# Altium schematic symbol library WE-HCFT.SchLib: 59 symbols (part 1 of 2)
Pins are listed as number, name and electrical type; pins without a type are passive.

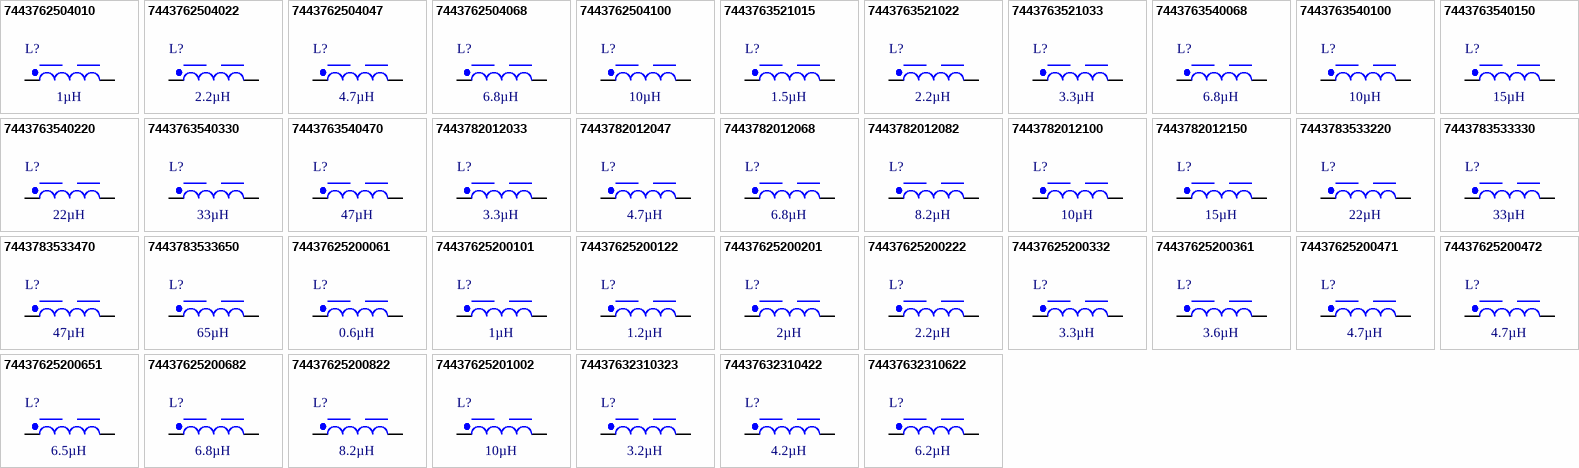
[diagram p0: symbols 7443762504010 to 74437632310622]

## 7443762504010
designator L?, comment 1µH
WE-HCFT THT High Current Inductor, size 2504, 1µH, 39A; Manufacturer Part Number: 7443762504010; Manufacturer: Wurth Elektronik; Case/Size Code: 2504; DC Resistance: 0.86mΩ; DC Resistance Max: 0.95mΩ; Inductance Tolerance: 20%; Saturation Current: 33A; Self Resonant Frequency: 38MHz; Category: Power Inductors; Match Code: WE-HCFT; ComponentLink1Description: Website Link; ComponentLink1URL: https://www.we-online.com/redexpert/article/7443762504010?ad; ComponentLink2Description: Datasheet Link; ComponentLink2URL: https://www.we-online.com/redexpert/spec/7443762504010?ad; Mount: Through Hole; Min Operating Temperature: -40°C; Max Operating Temperature: 125°C; Packaging: Tray; Length: 22mm; Width: 25.7mm; Height: 4.1mm; Inductance: 1µH; Rated Current: 39A
footprint WE-HCFT_2504_7443762504010
simulation model 2504_7443762504010_1u
pins: 1, 2

## 7443762504022
designator L?, comment 2.2µH
WE-HCFT THT High Current Inductor, size 2504, 2.2µH, 30A; Manufacturer Part Number: 7443762504022; Manufacturer: Wurth Elektronik; Case/Size Code: 2504; DC Resistance: 1.78mΩ; DC Resistance Max: 1.96mΩ; Inductance Tolerance: 20%; Saturation Current: 23.8A; Self Resonant Frequency: 23MHz; Category: Power Inductors; Match Code: WE-HCFT; ComponentLink1Description: Website Link; ComponentLink1URL: https://www.we-online.com/redexpert/article/7443762504022?ad; ComponentLink2Description: Datasheet Link; ComponentLink2URL: https://www.we-online.com/redexpert/spec/7443762504022?ad; Mount: Through Hole; Min Operating Temperature: -40°C; Max Operating Temperature: 125°C; Packaging: Tray; Length: 22mm; Width: 25.7mm; Height: 4.1mm; Inductance: 2.2µH; Rated Current: 30A
footprint WE-HCFT_2504_7443762504022
simulation model 2504_7443762504022_2.2u
pins: 1, 2

## 7443762504047
designator L?, comment 4.7µH
WE-HCFT THT High Current Inductor, size 2504, 4.7µH, 24A; Manufacturer Part Number: 7443762504047; Manufacturer: Wurth Elektronik; Case/Size Code: 2504; DC Resistance: 2.77mΩ; DC Resistance Max: 3.05mΩ; Inductance Tolerance: 20%; Saturation Current: 14A; Self Resonant Frequency: 14.5MHz; Category: Power Inductors; Match Code: WE-HCFT; ComponentLink1Description: Website Link; ComponentLink1URL: https://www.we-online.com/redexpert/article/7443762504047?ad; ComponentLink2Description: Datasheet Link; ComponentLink2URL: https://www.we-online.com/redexpert/spec/7443762504047?ad; Mount: Through Hole; Min Operating Temperature: -40°C; Max Operating Temperature: 125°C; Packaging: Tray; Length: 22mm; Width: 25.7mm; Height: 4.1mm; Inductance: 4.7µH; Rated Current: 24A
footprint WE-HCFT_2504_7443762504047
simulation model 2504_7443762504047_4.7u
pins: 1, 2

## 7443762504068
designator L?, comment 6.8µH
WE-HCFT THT High Current Inductor, size 2504, 6.8µH, 20A; Manufacturer Part Number: 7443762504068; Manufacturer: Wurth Elektronik; Case/Size Code: 2504; DC Resistance: 4.21mΩ; DC Resistance Max: 4.63mΩ; Inductance Tolerance: 20%; Saturation Current: 12.6A; Self Resonant Frequency: 11MHz; Category: Power Inductors; Match Code: WE-HCFT; ComponentLink1Description: Website Link; ComponentLink1URL: https://www.we-online.com/redexpert/article/7443762504068?ad; ComponentLink2Description: Datasheet Link; ComponentLink2URL: https://www.we-online.com/redexpert/spec/7443762504068?ad; Mount: Through Hole; Min Operating Temperature: -40°C; Max Operating Temperature: 125°C; Packaging: Tray; Length: 22mm; Width: 25.7mm; Height: 4.1mm; Inductance: 6.8µH; Rated Current: 20A
footprint WE-HCFT_2504_7443762504068
simulation model 2504_7443762504068_6.8u
pins: 1, 2

## 7443762504100
designator L?, comment 10µH
WE-HCFT THT High Current Inductor, size 2504, 10µH, 20A; Manufacturer Part Number: 7443762504100; Manufacturer: Wurth Elektronik; Case/Size Code: 2504; DC Resistance: 4.21mΩ; DC Resistance Max: 4.63mΩ; Inductance Tolerance: 20%; Saturation Current: 8.8A; Self Resonant Frequency: 8.4MHz; Category: Power Inductors; Match Code: WE-HCFT; ComponentLink1Description: Website Link; ComponentLink1URL: https://www.we-online.com/redexpert/article/7443762504100?ad; ComponentLink2Description: Datasheet Link; ComponentLink2URL: https://www.we-online.com/redexpert/spec/7443762504100?ad; Mount: Through Hole; Min Operating Temperature: -40°C; Max Operating Temperature: 125°C; Packaging: Tray; Length: 22mm; Width: 25.7mm; Height: 4.1mm; Inductance: 10µH; Rated Current: 20A
footprint WE-HCFT_2504_7443762504100
simulation model 2504_7443762504100_10u
pins: 1, 2

## 7443763521015
designator L?, comment 1.5µH
WE-HCFT THT High Current Inductor, size 3521, 1.5µH, 75A; Manufacturer Part Number: 7443763521015; Manufacturer: Wurth Elektronik; Case/Size Code: 3521; DC Resistance: 0.34mΩ; DC Resistance Max: 0.4mΩ; Inductance Tolerance: 20%; Saturation Current: 125A; Self Resonant Frequency: 37MHz; Category: Power Inductors; Match Code: WE-HCFT; ComponentLink1Description: Website Link; ComponentLink1URL: https://www.we-online.com/redexpert/article/7443763521015?ad; ComponentLink2Description: Datasheet Link; ComponentLink2URL: https://www.we-online.com/redexpert/spec/7443763521015?ad; Mount: Through Hole; Min Operating Temperature: -40°C; Max Operating Temperature: 125°C; Packaging: Tray; Length: 36mm; Width: 21.5mm; Height: 35mm; Inductance: 1.5µH; Rated Current: 75A
footprint WE-HCFT_3521
simulation model 3521_7443763521015_1.5u
pins: 1, 2

## 7443763521022
designator L?, comment 2.2µH
WE-HCFT THT High Current Inductor, size 3521, 2.2µH, 75A; Manufacturer Part Number: 7443763521022; Manufacturer: Wurth Elektronik; Case/Size Code: 3521; DC Resistance: 0.34mΩ; DC Resistance Max: 0.4mΩ; Inductance Tolerance: 20%; Saturation Current: 120A; Self Resonant Frequency: 30MHz; Category: Power Inductors; Match Code: WE-HCFT; ComponentLink1Description: Website Link; ComponentLink1URL: https://www.we-online.com/redexpert/article/7443763521022?ad; ComponentLink2Description: Datasheet Link; ComponentLink2URL: https://www.we-online.com/redexpert/spec/7443763521022?ad; Mount: Through Hole; Min Operating Temperature: -40°C; Max Operating Temperature: 125°C; Packaging: Tray; Length: 36mm; Width: 21.5mm; Height: 35mm; Inductance: 2.2µH; Rated Current: 75A
footprint WE-HCFT_3521
simulation model 3521_7443763521022_2.2u
pins: 1, 2

## 7443763521033
designator L?, comment 3.3µH
WE-HCFT THT High Current Inductor, size 3521, 3.3µH, 75A; Manufacturer Part Number: 7443763521033; Manufacturer: Wurth Elektronik; Case/Size Code: 3521; DC Resistance: 0.34mΩ; DC Resistance Max: 0.4mΩ; Inductance Tolerance: 20%; Saturation Current: 91A; Self Resonant Frequency: 25MHz; Category: Power Inductors; Match Code: WE-HCFT; ComponentLink1Description: Website Link; ComponentLink1URL: https://www.we-online.com/redexpert/article/7443763521033?ad; ComponentLink2Description: Datasheet Link; ComponentLink2URL: https://www.we-online.com/redexpert/spec/7443763521033?ad; Mount: Through Hole; Min Operating Temperature: -40°C; Max Operating Temperature: 125°C; Packaging: Tray; Length: 36mm; Width: 21.5mm; Height: 35mm; Inductance: 3.3µH; Rated Current: 75A
footprint WE-HCFT_3521
simulation model 3521_7443763521033_3.3u
pins: 1, 2

## 7443763540068
designator L?, comment 6.8µH
WE-HCFT THT High Current Inductor, size 3540, 6.8µH, 56.7A; Manufacturer Part Number: 7443763540068; Manufacturer: Wurth Elektronik; Case/Size Code: 3540; DC Resistance: 1.01mΩ; DC Resistance Max: 1.2mΩ; Inductance Tolerance: 20%; Saturation Current: 76.5A; Self Resonant Frequency: 16MHz; Category: Power Inductors; Match Code: WE-HCFT; ComponentLink1Description: Website Link; ComponentLink1URL: https://www.we-online.com/redexpert/article/7443763540068?ad; ComponentLink2Description: Datasheet Link; ComponentLink2URL: https://www.we-online.com/redexpert/spec/7443763540068?ad; Mount: Through Hole; Min Operating Temperature: -40°C; Max Operating Temperature: 125°C; Packaging: Tray; Length: 36mm; Width: 41mm; Height: 35mm; Inductance: 6.8µH; Rated Current: 56.7A
footprint WE-HCFT_3540_7443763540068
simulation model 3540_7443763540068_6.8u
pins: 1, 2

## 7443763540100
designator L?, comment 10µH
WE-HCFT THT High Current Inductor, size 3540, 10µH, 56.7A; Manufacturer Part Number: 7443763540100; Manufacturer: Wurth Elektronik; Case/Size Code: 3540; DC Resistance: 1.01mΩ; DC Resistance Max: 1.2mΩ; Inductance Tolerance: 20%; Saturation Current: 62A; Self Resonant Frequency: 14MHz; Category: Power Inductors; Match Code: WE-HCFT; ComponentLink1Description: Website Link; ComponentLink1URL: https://www.we-online.com/redexpert/article/7443763540100?ad; ComponentLink2Description: Datasheet Link; ComponentLink2URL: https://www.we-online.com/redexpert/spec/7443763540100?ad; Mount: Through Hole; Min Operating Temperature: -40°C; Max Operating Temperature: 125°C; Packaging: Tray; Length: 36mm; Width: 41mm; Height: 35mm; Inductance: 10µH; Rated Current: 56.7A
footprint WE-HCFT_3540_7443763540100
simulation model 3540_7443763540100_10u
pins: 1, 2

## 7443763540150
designator L?, comment 15µH
WE-HCFT THT High Current Inductor, size 3540, 15µH, 45.3A; Manufacturer Part Number: 7443763540150; Manufacturer: Wurth Elektronik; Case/Size Code: 3540; DC Resistance: 1.77mΩ; DC Resistance Max: 2.16mΩ; Inductance Tolerance: 20%; Saturation Current: 51.6A; Self Resonant Frequency: 12MHz; Category: Power Inductors; Match Code: WE-HCFT; ComponentLink1Description: Website Link; ComponentLink1URL: https://www.we-online.com/redexpert/article/7443763540150?ad; ComponentLink2Description: Datasheet Link; ComponentLink2URL: https://www.we-online.com/redexpert/spec/7443763540150?ad; Mount: Through Hole; Min Operating Temperature: -40°C; Max Operating Temperature: 125°C; Packaging: Tray; Length: 36mm; Width: 41mm; Height: 35mm; Inductance: 15µH; Rated Current: 45.3A
footprint WE-HCFT_3540_7443763540150
simulation model 3540_7443763540150_15u
pins: 1, 2

## 7443763540220
designator L?, comment 22µH
WE-HCFT THT High Current Inductor, size 3540, 22µH, 40.6A; Manufacturer Part Number: 7443763540220; Manufacturer: Wurth Elektronik; Case/Size Code: 3540; DC Resistance: 2.63mΩ; DC Resistance Max: 3.2mΩ; Inductance Tolerance: 20%; Saturation Current: 42A; Self Resonant Frequency: 9MHz; Category: Power Inductors; Match Code: WE-HCFT; ComponentLink1Description: Website Link; ComponentLink1URL: https://www.we-online.com/redexpert/article/7443763540220?ad; ComponentLink2Description: Datasheet Link; ComponentLink2URL: https://www.we-online.com/redexpert/spec/7443763540220?ad; Mount: Through Hole; Min Operating Temperature: -40°C; Max Operating Temperature: 125°C; Packaging: Tray; Length: 36mm; Width: 41mm; Height: 35mm; Inductance: 22µH; Rated Current: 40.6A
footprint WE-HCFT_3540_7443763540220
simulation model 3540_7443763540220_22u
pins: 1, 2

## 7443763540330
designator L?, comment 33µH
WE-HCFT THT High Current Inductor, size 3540, 33µH, 32A; Manufacturer Part Number: 7443763540330; Manufacturer: Wurth Elektronik; Case/Size Code: 3540; DC Resistance: 5.67mΩ; DC Resistance Max: 6.38mΩ; Inductance Tolerance: 20%; Saturation Current: 38.9A; Self Resonant Frequency: 7MHz; Category: Power Inductors; Match Code: WE-HCFT; ComponentLink1Description: Website Link; ComponentLink1URL: https://www.we-online.com/redexpert/article/7443763540330?ad; ComponentLink2Description: Datasheet Link; ComponentLink2URL: https://www.we-online.com/redexpert/spec/7443763540330?ad; Mount: Through Hole; Min Operating Temperature: -40°C; Max Operating Temperature: 125°C; Packaging: Tray; Length: 36mm; Width: 41mm; Height: 35mm; Inductance: 33µH; Rated Current: 32A
footprint WE-HCFT_3540_7443763540330
simulation model 3540_7443763540330_33u
pins: 1, 2

## 7443763540470
designator L?, comment 47µH
WE-HCFT THT High Current Inductor, size 3540, 47µH, 32A; Manufacturer Part Number: 7443763540470; Manufacturer: Wurth Elektronik; Case/Size Code: 3540; DC Resistance: 5.67mΩ; DC Resistance Max: 6.38mΩ; Inductance Tolerance: 20%; Saturation Current: 31A; Self Resonant Frequency: 6MHz; Category: Power Inductors; Match Code: WE-HCFT; ComponentLink1Description: Website Link; ComponentLink1URL: https://www.we-online.com/redexpert/article/7443763540470?ad; ComponentLink2Description: Datasheet Link; ComponentLink2URL: https://www.we-online.com/redexpert/spec/7443763540470?ad; Mount: Through Hole; Min Operating Temperature: -40°C; Max Operating Temperature: 125°C; Packaging: Tray; Length: 36mm; Width: 41mm; Height: 35mm; Inductance: 47µH; Rated Current: 32A
footprint WE-HCFT_3540_7443763540470
simulation model 3540_7443763540470_47u
pins: 1, 2

## 7443782012033
designator L?, comment 3.3µH
WE-HCFT THT High Current Inductor, size 2012, 3.3µH, 28.7A; Manufacturer Part Number: 7443782012033; Manufacturer: Wurth Elektronik; Case/Size Code: 2012; DC Resistance: 2.2mΩ; DC Resistance Max: 2.4mΩ; Inductance Tolerance: 20%; Saturation Current: 43A; Self Resonant Frequency: 40MHz; Category: Power Inductors; Match Code: WE-HCFT; ComponentLink1Description: Website Link; ComponentLink1URL: https://www.we-online.com/redexpert/article/7443782012033?ad; ComponentLink2Description: Datasheet Link; ComponentLink2URL: https://www.we-online.com/redexpert/spec/7443782012033?ad; Mount: Through Hole; Min Operating Temperature: -40°C; Max Operating Temperature: 125°C; Packaging: Tray; Length: 22mm; Width: 17mm; Height: 13.5mm; Inductance: 3.3µH; Rated Current: 28.7A
footprint WE-HCFT_2012_7443782012033
simulation model 2012_7443782012033_3.3u
pins: 1, 2

## 7443782012047
designator L?, comment 4.7µH
WE-HCFT THT High Current Inductor, size 2012, 4.7µH, 28.7A; Manufacturer Part Number: 7443782012047; Manufacturer: Wurth Elektronik; Case/Size Code: 2012; DC Resistance: 2.2mΩ; DC Resistance Max: 2.4mΩ; Inductance Tolerance: 20%; Saturation Current: 29.8A; Self Resonant Frequency: 28MHz; Category: Power Inductors; Match Code: WE-HCFT; ComponentLink1Description: Website Link; ComponentLink1URL: https://www.we-online.com/redexpert/article/7443782012047?ad; ComponentLink2Description: Datasheet Link; ComponentLink2URL: https://www.we-online.com/redexpert/spec/7443782012047?ad; Mount: Through Hole; Min Operating Temperature: -40°C; Max Operating Temperature: 125°C; Packaging: Tray; Length: 22mm; Width: 17mm; Height: 13.5mm; Inductance: 4.7µH; Rated Current: 28.7A
footprint WE-HCFT_2012_7443782012047
simulation model 2012_7443782012047_4.7u
pins: 1, 2

## 7443782012068
designator L?, comment 6.8µH
WE-HCFT THT High Current Inductor, size 2012, 6.8µH, 20.6A; Manufacturer Part Number: 7443782012068; Manufacturer: Wurth Elektronik; Case/Size Code: 2012; DC Resistance: 4.55mΩ; DC Resistance Max: 5mΩ; Inductance Tolerance: 20%; Saturation Current: 30.6A; Self Resonant Frequency: 21MHz; Category: Power Inductors; Match Code: WE-HCFT; ComponentLink1Description: Website Link; ComponentLink1URL: https://www.we-online.com/redexpert/article/7443782012068?ad; ComponentLink2Description: Datasheet Link; ComponentLink2URL: https://www.we-online.com/redexpert/spec/7443782012068?ad; Mount: Through Hole; Min Operating Temperature: -40°C; Max Operating Temperature: 125°C; Packaging: Tray; Length: 22mm; Width: 17mm; Height: 13.5mm; Inductance: 6.8µH; Rated Current: 20.6A
footprint WE-HCFT_2012_7443782012068
simulation model 2012_7443782012068_6.8u
pins: 1, 2

## 7443782012082
designator L?, comment 8.2µH
WE-HCFT THT High Current Inductor, size 2012, 8.2µH, 20.6A; Manufacturer Part Number: 7443782012082; Manufacturer: Wurth Elektronik; Case/Size Code: 2012; DC Resistance: 4.55mΩ; DC Resistance Max: 5mΩ; Inductance Tolerance: 20%; Saturation Current: 25.6A; Self Resonant Frequency: 18MHz; Category: Power Inductors; Match Code: WE-HCFT; ComponentLink1Description: Website Link; ComponentLink1URL: https://www.we-online.com/redexpert/article/7443782012082?ad; ComponentLink2Description: Datasheet Link; ComponentLink2URL: https://www.we-online.com/redexpert/spec/7443782012082?ad; Mount: Through Hole; Min Operating Temperature: -40°C; Max Operating Temperature: 125°C; Packaging: Tray; Length: 22mm; Width: 17mm; Height: 13.5mm; Inductance: 8.2µH; Rated Current: 20.6A
footprint WE-HCFT_2012_7443782012082
simulation model 2012_7443782012082_8.2u
pins: 1, 2

## 7443782012100
designator L?, comment 10µH
WE-HCFT THT High Current Inductor, size 2012, 10µH, 20.6A; Manufacturer Part Number: 7443782012100; Manufacturer: Wurth Elektronik; Case/Size Code: 2012; DC Resistance: 4.55mΩ; DC Resistance Max: 5mΩ; Inductance Tolerance: 20%; Self Resonant Frequency: 17MHz; Category: Power Inductors; Match Code: WE-HCFT; ComponentLink1Description: Website Link; ComponentLink1URL: https://www.we-online.com/redexpert/article/7443782012100?ad; ComponentLink2Description: Datasheet Link; ComponentLink2URL: https://www.we-online.com/redexpert/spec/7443782012100?ad; Mount: Through Hole; Min Operating Temperature: -40°C; Max Operating Temperature: 125°C; Packaging: Tray; Length: 22mm; Width: 17mm; Height: 13.5mm; Inductance: 10µH; Rated Current: 20.6A; Saturation Current: 20.6A
footprint WE-HCFT_2012_7443782012100
simulation model 2012_7443782012100_10u
pins: 1, 2

## 7443782012150
designator L?, comment 15µH
WE-HCFT THT High Current Inductor, size 2012, 15µH, 20.6A; Manufacturer Part Number: 7443782012150; Manufacturer: Wurth Elektronik; Case/Size Code: 2012; DC Resistance: 4.55mΩ; DC Resistance Max: 5mΩ; Inductance Tolerance: 20%; Saturation Current: 12.9A; Self Resonant Frequency: 13MHz; Category: Power Inductors; Match Code: WE-HCFT; ComponentLink1Description: Website Link; ComponentLink1URL: https://www.we-online.com/redexpert/article/7443782012150?ad; ComponentLink2Description: Datasheet Link; ComponentLink2URL: https://www.we-online.com/redexpert/spec/7443782012150?ad; Mount: Through Hole; Min Operating Temperature: -40°C; Max Operating Temperature: 125°C; Packaging: Tray; Length: 22mm; Width: 17mm; Height: 13.5mm; Inductance: 15µH; Rated Current: 20.6A
footprint WE-HCFT_2012_7443782012150
simulation model 2012_7443782012150_15u
pins: 1, 2

## 7443783533220
designator L?, comment 22µH
WE-HCFT THT High Current Inductor, size 3533, 22µH, 23.2A; Manufacturer Part Number: 7443783533220; Manufacturer: Wurth Elektronik; Case/Size Code: 3533; DC Resistance: 8mΩ; DC Resistance Max: 8.8mΩ; Inductance Tolerance: 20%; Saturation Current: 49.4A; Self Resonant Frequency: 8.15MHz; Category: Power Inductors; Match Code: WE-HCFT; ComponentLink1Description: Website Link; ComponentLink1URL: https://www.we-online.com/redexpert/article/7443783533220?ad; ComponentLink2Description: Datasheet Link; ComponentLink2URL: https://www.we-online.com/redexpert/spec/7443783533220?ad; Mount: Through Hole; Min Operating Temperature: -40°C; Max Operating Temperature: 125°C; Packaging: Tray; Length: 36mm; Width: 34.5mm; Height: 35mm; Inductance: 22µH; Rated Current: 23.2A
footprint WE-HCFT_3533_7443783533220
simulation model 3533_7443783533220_22u
pins: 1, 2

## 7443783533330
designator L?, comment 33µH
WE-HCFT THT High Current Inductor, size 3533, 33µH, 22A; Manufacturer Part Number: 7443783533330; Manufacturer: Wurth Elektronik; Case/Size Code: 3533; DC Resistance: 9mΩ; DC Resistance Max: 9.9mΩ; Inductance Tolerance: 20%; Saturation Current: 39.2A; Self Resonant Frequency: 6.08MHz; Category: Power Inductors; Match Code: WE-HCFT; ComponentLink1Description: Website Link; ComponentLink1URL: https://www.we-online.com/redexpert/article/7443783533330?ad; ComponentLink2Description: Datasheet Link; ComponentLink2URL: https://www.we-online.com/redexpert/spec/7443783533330?ad; Mount: Through Hole; Min Operating Temperature: -40°C; Max Operating Temperature: 125°C; Packaging: Tray; Length: 36mm; Width: 34.5mm; Height: 35mm; Inductance: 33µH; Rated Current: 22A
footprint WE-HCFT_3533_7443783533330
simulation model 3533_7443783533330_33u
pins: 1, 2

## 7443783533470
designator L?, comment 47µH
WE-HCFT THT High Current Inductor, size 3533, 47µH, 19.3A; Manufacturer Part Number: 7443783533470; Manufacturer: Wurth Elektronik; Case/Size Code: 3533; DC Resistance: 11.8mΩ; DC Resistance Max: 12.98mΩ; Inductance Tolerance: 20%; Saturation Current: 32.3A; Self Resonant Frequency: 5.1MHz; Category: Power Inductors; Match Code: WE-HCFT; ComponentLink1Description: Website Link; ComponentLink1URL: https://www.we-online.com/redexpert/article/7443783533470?ad; ComponentLink2Description: Datasheet Link; ComponentLink2URL: https://www.we-online.com/redexpert/spec/7443783533470?ad; Mount: Through Hole; Min Operating Temperature: -40°C; Max Operating Temperature: 125°C; Packaging: Tray; Length: 36mm; Width: 34.5mm; Height: 35mm; Inductance: 47µH; Rated Current: 19.3A
footprint WE-HCFT_3533_7443783533470
simulation model 3533_7443783533470_47u
pins: 1, 2

## 7443783533650
designator L?, comment 65µH
WE-HCFT THT High Current Inductor, size 3533, 65µH, 17.2A; Manufacturer Part Number: 7443783533650; Manufacturer: Wurth Elektronik; Case/Size Code: 3533; DC Resistance: 13.13mΩ; DC Resistance Max: 14.44mΩ; Inductance Tolerance: 20%; Saturation Current: 26.6A; Self Resonant Frequency: 4.28MHz; Category: Power Inductors; Match Code: WE-HCFT; ComponentLink1Description: Website Link; ComponentLink1URL: https://www.we-online.com/redexpert/article/7443783533650?ad; ComponentLink2Description: Datasheet Link; ComponentLink2URL: https://www.we-online.com/redexpert/spec/7443783533650?ad; Mount: Through Hole; Min Operating Temperature: -40°C; Max Operating Temperature: 125°C; Packaging: Tray; Length: 36mm; Width: 34.5mm; Height: 35mm; Inductance: 65µH; Rated Current: 17.2A
footprint WE-HCFT_3533_7443783533650
simulation model 3533_7443783533650_65u
pins: 1, 2

## 74437625200061
designator L?, comment 0.6µH
WE-HCFT THT High Current Inductor, size 2520, 0.6µH, 85.7A; Manufacturer Part Number: 74437625200061; Manufacturer: Wurth Elektronik; Case/Size Code: 2520; DC Resistance: 0.21mΩ; Inductance Tolerance: 20%; Saturation Current: 170A; Self Resonant Frequency: 133.1MHz; Category: Power Inductors; Match Code: WE-HCFT; ComponentLink1Description: Website Link; ComponentLink1URL: https://www.we-online.com/redexpert/article/74437625200061?ad; ComponentLink2Description: Datasheet Link; ComponentLink2URL: https://www.we-online.com/redexpert/spec/74437625200061?ad; Mount: Through Hole; Min Operating Temperature: -55°C; Max Operating Temperature: 155°C; Packaging: Tray; Length: 25mm; Width: 20.8mm; Height: 21.75mm; Inductance: 0.6µH; Rated Current: 85.7A
footprint WE-HCFT_2520_74437625200061
simulation model 2520_74437625200061_0.6u
pins: 1, 2

## 74437625200101
designator L?, comment 1µH
WE-HCFT THT High Current Inductor, size 2520, 1µH, 70.6A; Manufacturer Part Number: 74437625200101; Manufacturer: Wurth Elektronik; Case/Size Code: 2520; Saturation Current: 260A; Self Resonant Frequency: 90.38MHz; Category: Power Inductors; Match Code: WE-HCFT; ComponentLink1Description: Website Link; ComponentLink1URL: https://www.we-online.com/redexpert/article/74437625200101?ad; ComponentLink2Description: Datasheet Link; ComponentLink2URL: https://www.we-online.com/redexpert/spec/74437625200101?ad; Mount: Through Hole; Min Operating Temperature: -55°C; Max Operating Temperature: 155°C; Packaging: Tray; Length: 25mm; Width: 20.8mm; Height: 21.75mm; Inductance: 1µH; Rated Current: 70.6A
footprint WE-HCFT_2520_74437625200101
pins: 1, 2

## 74437625200122
designator L?, comment 1.2µH
WE-HCFT THT High Current Inductor, size 2520, 1.2µH, 85.7A; Manufacturer Part Number: 74437625200122; Manufacturer: Wurth Elektronik; Case/Size Code: 2520; DC Resistance: 0.21mΩ; Inductance Tolerance: 20%; Saturation Current: 156.9A; Self Resonant Frequency: 89.75MHz; Category: Power Inductors; Match Code: WE-HCFT; ComponentLink1Description: Website Link; ComponentLink1URL: https://www.we-online.com/redexpert/article/74437625200122?ad; ComponentLink2Description: Datasheet Link; ComponentLink2URL: https://www.we-online.com/redexpert/spec/74437625200122?ad; Mount: Through Hole; Min Operating Temperature: -55°C; Max Operating Temperature: 155°C; Packaging: Tray; Length: 25mm; Width: 20.8mm; Height: 21.75mm; Inductance: 1.2µH; Rated Current: 85.7A
footprint WE-HCFT_2520_74437625200122
simulation model 2520_74437625200122_1.2u
pins: 1, 2

## 74437625200201
designator L?, comment 2µH
WE-HCFT THT High Current Inductor, size 2520, 2µH, 57.3A; Manufacturer Part Number: 74437625200201; Manufacturer: Wurth Elektronik; Case/Size Code: 2520; Saturation Current: 190.2A; Self Resonant Frequency: 50.94MHz; Category: Power Inductors; Match Code: WE-HCFT; ComponentLink1Description: Website Link; ComponentLink1URL: https://www.we-online.com/redexpert/article/74437625200201?ad; ComponentLink2Description: Datasheet Link; ComponentLink2URL: https://www.we-online.com/redexpert/spec/74437625200201?ad; Mount: Through Hole; Min Operating Temperature: -55°C; Max Operating Temperature: 155°C; Packaging: Tray; Length: 25mm; Width: 20.8mm; Height: 21.75mm; Inductance: 2µH; Rated Current: 57.3A
footprint WE-HCFT_2520_74437625200201
pins: 1, 2

## 74437625200222
designator L?, comment 2.2µH
WE-HCFT THT High Current Inductor, size 2520, 2.2µH, 70.6A; Manufacturer Part Number: 74437625200222; Manufacturer: Wurth Elektronik; Case/Size Code: 2520; Saturation Current: 122.4A; Self Resonant Frequency: 62.24MHz; Category: Power Inductors; Match Code: WE-HCFT; ComponentLink1Description: Website Link; ComponentLink1URL: https://www.we-online.com/redexpert/article/74437625200222?ad; ComponentLink2Description: Datasheet Link; ComponentLink2URL: https://www.we-online.com/redexpert/spec/74437625200222?ad; Mount: Through Hole; Min Operating Temperature: -55°C; Max Operating Temperature: 155°C; Packaging: Tray; Length: 25mm; Width: 20.8mm; Height: 21.75mm; Inductance: 2.2µH; Rated Current: 70.6A
footprint WE-HCFT_2520_74437625200222
pins: 1, 2

## 74437625200332
designator L?, comment 3.3µH
WE-HCFT THT High Current Inductor, size 2520, 3.3µH, 59.9A; Manufacturer Part Number: 74437625200332; Manufacturer: Wurth Elektronik; Case/Size Code: 2520; Saturation Current: 97.1A; Self Resonant Frequency: 45.61MHz; Category: Power Inductors; Match Code: WE-HCFT; ComponentLink1Description: Website Link; ComponentLink1URL: https://www.we-online.com/redexpert/article/74437625200332?ad; ComponentLink2Description: Datasheet Link; ComponentLink2URL: https://www.we-online.com/redexpert/spec/74437625200332?ad; Mount: Through Hole; Min Operating Temperature: -55°C; Max Operating Temperature: 155°C; Packaging: Tray; Length: 25mm; Width: 20.8mm; Height: 21.75mm; Inductance: 3.3µH; Rated Current: 59.9A
footprint WE-HCFT_2520_74437625200332
pins: 1, 2

## 74437625200361
designator L?, comment 3.6µH
WE-HCFT THT High Current Inductor, size 2520, 3.6µH, 42.2A; Manufacturer Part Number: 74437625200361; Manufacturer: Wurth Elektronik; Case/Size Code: 2520; Saturation Current: 143.5A; Self Resonant Frequency: 34.6MHz; Category: Power Inductors; Match Code: WE-HCFT; ComponentLink1Description: Website Link; ComponentLink1URL: https://www.we-online.com/redexpert/article/74437625200361?ad; ComponentLink2Description: Datasheet Link; ComponentLink2URL: https://www.we-online.com/redexpert/spec/74437625200361?ad; Mount: Through Hole; Min Operating Temperature: -55°C; Max Operating Temperature: 155°C; Packaging: Tray; Length: 25mm; Width: 20.8mm; Height: 21.75mm; Inductance: 3.6µH; Rated Current: 42.2A
footprint WE-HCFT_2520_74437625200361
pins: 1, 2

## 74437625200471
designator L?, comment 4.7µH
WE-HCFT THT High Current Inductor, size 2520, 4.7µH, 36.7A; Manufacturer Part Number: 74437625200471; Manufacturer: Wurth Elektronik; Case/Size Code: 2520; Saturation Current: 138.9A; Self Resonant Frequency: 30.55MHz; Category: Power Inductors; Match Code: WE-HCFT; ComponentLink1Description: Website Link; ComponentLink1URL: https://www.we-online.com/redexpert/article/74437625200471?ad; ComponentLink2Description: Datasheet Link; ComponentLink2URL: https://www.we-online.com/redexpert/spec/74437625200471?ad; Mount: Through Hole; Min Operating Temperature: -55°C; Max Operating Temperature: 155°C; Packaging: Tray; Length: 25mm; Width: 20.8mm; Height: 21.75mm; Inductance: 4.7µH; Rated Current: 36.7A
footprint WE-HCFT_2520_74437625200471
pins: 1, 2

## 74437625200472
designator L?, comment 4.7µH
WE-HCFT THT High Current Inductor, size 2520, 4.7µH, 57.3A; Manufacturer Part Number: 74437625200472; Manufacturer: Wurth Elektronik; Case/Size Code: 2520; Saturation Current: 77.5A; Self Resonant Frequency: 35.08MHz; Category: Power Inductors; Match Code: WE-HCFT; ComponentLink1Description: Website Link; ComponentLink1URL: https://www.we-online.com/redexpert/article/74437625200472?ad; ComponentLink2Description: Datasheet Link; ComponentLink2URL: https://www.we-online.com/redexpert/spec/74437625200472?ad; Mount: Through Hole; Min Operating Temperature: -55°C; Max Operating Temperature: 155°C; Packaging: Tray; Length: 25mm; Width: 20.8mm; Height: 21.75mm; Inductance: 4.7µH; Rated Current: 57.3A
footprint WE-HCFT_2520_74437625200472
pins: 1, 2

## 74437625200651
designator L?, comment 6.5µH
WE-HCFT THT High Current Inductor, size 2520, 6.5µH, 29.8A; Manufacturer Part Number: 74437625200651; Manufacturer: Wurth Elektronik; Case/Size Code: 2520; DC Resistance: 2.2mΩ; Inductance Tolerance: 20%; Saturation Current: 108.6A; Self Resonant Frequency: 30.34MHz; Category: Power Inductors; Match Code: WE-HCFT; ComponentLink1Description: Website Link; ComponentLink1URL: https://www.we-online.com/redexpert/article/74437625200651?ad; ComponentLink2Description: Datasheet Link; ComponentLink2URL: https://www.we-online.com/redexpert/spec/74437625200651?ad; Mount: Through Hole; Min Operating Temperature: -55°C; Max Operating Temperature: 155°C; Packaging: Tray; Length: 25mm; Width: 20.8mm; Height: 21.75mm; Inductance: 6.5µH; Rated Current: 29.8A
footprint WE-HCFT_2520_74437625200651
simulation model 2520_74437625200651_6.5u
pins: 1, 2

## 74437625200682
designator L?, comment 6.8µH
WE-HCFT THT High Current Inductor, size 2520, 6.8µH, 54.7A; Manufacturer Part Number: 74437625200682; Manufacturer: Wurth Elektronik; Case/Size Code: 2520; Saturation Current: 69A; Self Resonant Frequency: 26.98MHz; Category: Power Inductors; Match Code: WE-HCFT; ComponentLink1Description: Website Link; ComponentLink1URL: https://www.we-online.com/redexpert/article/74437625200682?ad; ComponentLink2Description: Datasheet Link; ComponentLink2URL: https://www.we-online.com/redexpert/spec/74437625200682?ad; Mount: Through Hole; Min Operating Temperature: -55°C; Max Operating Temperature: 155°C; Packaging: Tray; Length: 25mm; Width: 20.8mm; Height: 21.75mm; Inductance: 6.8µH; Rated Current: 54.7A
footprint WE-HCFT_2520_74437625200682
pins: 1, 2

## 74437625200822
designator L?, comment 8.2µH
WE-HCFT THT High Current Inductor, size 2520, 8.2µH, 42.2A; Manufacturer Part Number: 74437625200822; Manufacturer: Wurth Elektronik; Case/Size Code: 2520; Saturation Current: 82.4A; Self Resonant Frequency: 25.19MHz; Category: Power Inductors; Match Code: WE-HCFT; ComponentLink1Description: Website Link; ComponentLink1URL: https://www.we-online.com/redexpert/article/74437625200822?ad; ComponentLink2Description: Datasheet Link; ComponentLink2URL: https://www.we-online.com/redexpert/spec/74437625200822?ad; Mount: Through Hole; Min Operating Temperature: -55°C; Max Operating Temperature: 155°C; Packaging: Tray; Length: 25mm; Width: 20.8mm; Height: 21.75mm; Inductance: 8.2µH; Rated Current: 42.2A
footprint WE-HCFT_2520_74437625200822
pins: 1, 2

## 74437625201002
designator L?, comment 10µH
WE-HCFT THT High Current Inductor, size 2520, 10µH, 36.7A; Manufacturer Part Number: 74437625201002; Manufacturer: Wurth Elektronik; Case/Size Code: 2520; DC Resistance: 1.85mΩ; Inductance Tolerance: 20%; Saturation Current: 60.2A; Self Resonant Frequency: 23.66MHz; Category: Power Inductors; Match Code: WE-HCFT; ComponentLink1Description: Website Link; ComponentLink1URL: https://www.we-online.com/redexpert/article/74437625201002?ad; ComponentLink2Description: Datasheet Link; ComponentLink2URL: https://www.we-online.com/redexpert/spec/74437625201002?ad; Mount: Through Hole; Min Operating Temperature: -55°C; Max Operating Temperature: 155°C; Packaging: Tray; Length: 25mm; Width: 20.8mm; Height: 21.75mm; Inductance: 10µH; Rated Current: 36.7A
footprint WE-HCFT_2520_74437625201002
simulation model 2520_74437625201002_10u
pins: 1, 2

## 74437632310323
designator L?, comment 3.2µH
WE-HCFT THT High Current Inductor, size 3231, 3.2µH, 65.6A; Manufacturer Part Number: 74437632310323; Manufacturer: Wurth Elektronik; Case/Size Code: 3231; DC Resistance: 0.4mΩ; Inductance Tolerance: 20%; Saturation Current: 174A; Self Resonant Frequency: 28.71MHz; Category: Power Inductors; Match Code: WE-HCFT; ComponentLink1Description: Website Link; ComponentLink1URL: https://www.we-online.com/redexpert/article/74437632310323?ad; ComponentLink2Description: Datasheet Link; ComponentLink2URL: https://www.we-online.com/redexpert/spec/74437632310323?ad; Mount: Through Hole; Min Operating Temperature: -55°C; Max Operating Temperature: 155°C; Packaging: Tray; Length: 32.2mm; Width: 31.5mm; Height: 30.5mm; Inductance: 3.2µH; Rated Current: 65.6A
footprint WE-HCFT_3231_74437632310323
simulation model 3231_74437632310323_3.2u
pins: 1, 2

## 74437632310422
designator L?, comment 4.2µH
WE-HCFT THT High Current Inductor, size 3231, 4.2µH, 79.3A; Manufacturer Part Number: 74437632310422; Manufacturer: Wurth Elektronik; Case/Size Code: 3231; DC Resistance: 0.46mΩ; Inductance Tolerance: 20%; Saturation Current: 123.7A; Self Resonant Frequency: 32.74MHz; Category: Power Inductors; Match Code: WE-HCFT; ComponentLink1Description: Website Link; ComponentLink1URL: https://www.we-online.com/redexpert/article/74437632310422?ad; ComponentLink2Description: Datasheet Link; ComponentLink2URL: https://www.we-online.com/redexpert/spec/74437632310422?ad; Mount: Through Hole; Min Operating Temperature: -55°C; Max Operating Temperature: 155°C; Packaging: Tray; Length: 32mm; Width: 32mm; Height: 30mm; Inductance: 4.2µH; Rated Current: 79.3A
footprint WE-HCFT_3231_74437632310422
simulation model 3231_74437632310422_4.2u
pins: 1, 2

## 74437632310622
designator L?, comment 6.2µH
WE-HCFT THT High Current Inductor, size 3231, 6.2µH, 63.2A; Manufacturer Part Number: 74437632310622; Manufacturer: Wurth Elektronik; Case/Size Code: 3231; Saturation Current: 104.1A; Self Resonant Frequency: 26.8MHz; Category: Power Inductors; Match Code: WE-HCFT; ComponentLink1Description: Website Link; ComponentLink1URL: https://www.we-online.com/redexpert/article/74437632310622?ad; ComponentLink2Description: Datasheet Link; ComponentLink2URL: https://www.we-online.com/redexpert/spec/74437632310622?ad; Mount: Through Hole; Min Operating Temperature: -55°C; Max Operating Temperature: 155°C; Packaging: Tray; Inductance: 6.2µH; Rated Current: 63.2A
footprint WE-HCFT_3231_74437632310622
pins: 1, 2

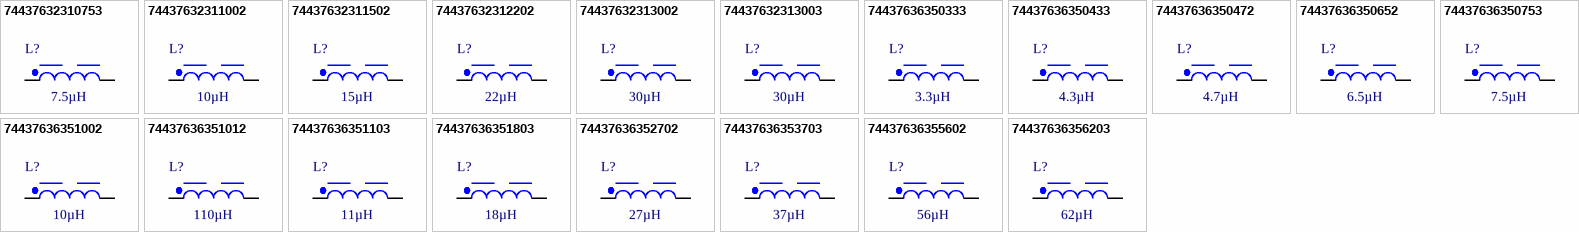
[diagram p1: symbols 74437632310753 to 74437636356203]

## 74437632310753
designator L?, comment 7.5µH
WE-HCFT THT High Current Inductor, size 3231, 7.5µH, 54.7A; Manufacturer Part Number: 74437632310753; Manufacturer: Wurth Elektronik; Case/Size Code: 3231; Saturation Current: 115.3A; Self Resonant Frequency: 20.47MHz; Category: Power Inductors; Match Code: WE-HCFT; ComponentLink1Description: Website Link; ComponentLink1URL: https://www.we-online.com/redexpert/article/74437632310753?ad; ComponentLink2Description: Datasheet Link; ComponentLink2URL: https://www.we-online.com/redexpert/spec/74437632310753?ad; Mount: Through Hole; Min Operating Temperature: -55°C; Max Operating Temperature: 155°C; Packaging: Tray; Inductance: 7.5µH; Rated Current: 54.7A
footprint WE-HCFT_3231_74437632310753
pins: 1, 2

## 74437632311002
designator L?, comment 10µH
WE-HCFT THT High Current Inductor, size 3231, 10µH, 58.4A; Manufacturer Part Number: 74437632311002; Manufacturer: Wurth Elektronik; Case/Size Code: 3231; Saturation Current: 81.2A; Self Resonant Frequency: 18.97MHz; Category: Power Inductors; Match Code: WE-HCFT; ComponentLink1Description: Website Link; ComponentLink1URL: https://www.we-online.com/redexpert/article/74437632311002?ad; ComponentLink2Description: Datasheet Link; ComponentLink2URL: https://www.we-online.com/redexpert/spec/74437632311002?ad; Mount: Through Hole; Min Operating Temperature: -55°C; Max Operating Temperature: 155°C; Packaging: Tray; Inductance: 10µH; Rated Current: 58.4A
footprint WE-HCFT_3231_74437632311002
pins: 1, 2

## 74437632311502
designator L?, comment 15µH
WE-HCFT THT High Current Inductor, size 3231, 15µH, 43.4A; Manufacturer Part Number: 74437632311502; Manufacturer: Wurth Elektronik; Case/Size Code: 3231; Saturation Current: 67.4A; Self Resonant Frequency: 16.41MHz; Category: Power Inductors; Match Code: WE-HCFT; ComponentLink1Description: Website Link; ComponentLink1URL: https://www.we-online.com/redexpert/article/74437632311502?ad; ComponentLink2Description: Datasheet Link; ComponentLink2URL: https://www.we-online.com/redexpert/spec/74437632311502?ad; Mount: Through Hole; Min Operating Temperature: -55°C; Max Operating Temperature: 155°C; Packaging: Tray; Inductance: 15µH; Rated Current: 43.4A
footprint WE-HCFT_3231_74437632311502
pins: 1, 2

## 74437632312202
designator L?, comment 22µH
WE-HCFT THT High Current Inductor, size 3231, 22µH, 36.9A; Manufacturer Part Number: 74437632312202; Manufacturer: Wurth Elektronik; Case/Size Code: 3231; Saturation Current: 56.2A; Self Resonant Frequency: 12.8MHz; Category: Power Inductors; Match Code: WE-HCFT; ComponentLink1Description: Website Link; ComponentLink1URL: https://www.we-online.com/redexpert/article/74437632312202?ad; ComponentLink2Description: Datasheet Link; ComponentLink2URL: https://www.we-online.com/redexpert/spec/74437632312202?ad; Mount: Through Hole; Min Operating Temperature: -55°C; Max Operating Temperature: 155°C; Packaging: Tray; Inductance: 22µH; Rated Current: 36.9A
footprint WE-HCFT_3231_74437632312202
pins: 1, 2

## 74437632313002
designator L?, comment 30µH
WE-HCFT THT High Current Inductor, size 3231, 30µH, 30.8A; Manufacturer Part Number: 74437632313002; Manufacturer: Wurth Elektronik; Case/Size Code: 3231; DC Resistance: 2.42mΩ; Inductance Tolerance: 20%; Saturation Current: 48.7A; Self Resonant Frequency: 11.38MHz; Category: Power Inductors; Match Code: WE-HCFT; ComponentLink1Description: Website Link; ComponentLink1URL: https://www.we-online.com/redexpert/article/74437632313002?ad; ComponentLink2Description: Datasheet Link; ComponentLink2URL: https://www.we-online.com/redexpert/spec/74437632313002?ad; Mount: Through Hole; Min Operating Temperature: -55°C; Max Operating Temperature: 155°C; Packaging: Tray; Length: 32mm; Width: 32mm; Height: 30mm; Inductance: 30µH; Rated Current: 30.8A
footprint WE-HCFT_3231_74437632313002
simulation model 3231_74437632313002_30u
pins: 1, 2

## 74437632313003
designator L?, comment 30µH
WE-HCFT THT High Current Inductor, size 3231, 30µH, 32.2A; Manufacturer Part Number: 74437632313003; Manufacturer: Wurth Elektronik; Case/Size Code: 3231; DC Resistance: 3.11mΩ; Inductance Tolerance: 20%; Saturation Current: 62.6A; Self Resonant Frequency: 9.57MHz; Category: Power Inductors; Match Code: WE-HCFT; ComponentLink1Description: Website Link; ComponentLink1URL: https://www.we-online.com/redexpert/article/74437632313003?ad; ComponentLink2Description: Datasheet Link; ComponentLink2URL: https://www.we-online.com/redexpert/spec/74437632313003?ad; Mount: Through Hole; Min Operating Temperature: -55°C; Max Operating Temperature: 155°C; Packaging: Tray; Length: 32.2mm; Width: 31.5mm; Height: 30.5mm; Inductance: 30µH; Rated Current: 32.2A
footprint WE-HCFT_3231_74437632313003
simulation model 3231_74437632313003_30u
pins: 1, 2

## 74437636350333
designator L?, comment 3.3µH
WE-HCFT THT High Current Inductor, size 3635, 3.3µH, 98.1A; Manufacturer Part Number: 74437636350333; Manufacturer: Wurth Elektronik; Case/Size Code: 3635; DC Resistance: 0.3mΩ; Inductance Tolerance: 20%; Saturation Current: 189.1A; Self Resonant Frequency: 30.55MHz; Category: Power Inductors; Match Code: WE-HCFT; ComponentLink1Description: Website Link; ComponentLink1URL: https://www.we-online.com/redexpert/article/74437636350333?ad; ComponentLink2Description: Datasheet Link; ComponentLink2URL: https://www.we-online.com/redexpert/spec/74437636350333?ad; Mount: Through Hole; Min Operating Temperature: -55°C; Max Operating Temperature: 155°C; Packaging: Tray; Length: 36mm; Width: 35.7mm; Height: 34.2mm; Inductance: 3.3µH; Rated Current: 98.1A
footprint WE-HCFT_3635_74437636350333
simulation model 3635_74437636350333_3.3u
pins: 1, 2

## 74437636350433
designator L?, comment 4.3µH
WE-HCFT THT High Current Inductor, size 3635, 4.3µH, 82.4A; Manufacturer Part Number: 74437636350433; Manufacturer: Wurth Elektronik; Case/Size Code: 3635; Saturation Current: 161.3A; Self Resonant Frequency: 23.66MHz; Category: Power Inductors; Match Code: WE-HCFT; ComponentLink1Description: Website Link; ComponentLink1URL: https://www.we-online.com/redexpert/article/74437636350433?ad; ComponentLink2Description: Datasheet Link; ComponentLink2URL: https://www.we-online.com/redexpert/spec/74437636350433?ad; Mount: Through Hole; Min Operating Temperature: -55°C; Max Operating Temperature: 155°C; Packaging: Tray; Length: 36mm; Width: 35.7mm; Height: 34.2mm; Inductance: 4.3µH; Rated Current: 82.4A
footprint WE-HCFT_3635_74437636350433
pins: 1, 2

## 74437636350472
designator L?, comment 4.7µH
WE-HCFT THT High Current Inductor, size 3635, 4.7µH, 98.1A; Manufacturer Part Number: 74437636350472; Manufacturer: Wurth Elektronik; Case/Size Code: 3635; DC Resistance: 0.3mΩ; Inductance Tolerance: 20%; Saturation Current: 120.4A; Self Resonant Frequency: 27.36MHz; Category: Power Inductors; Match Code: WE-HCFT; ComponentLink1Description: Website Link; ComponentLink1URL: https://www.we-online.com/redexpert/article/74437636350472?ad; ComponentLink2Description: Datasheet Link; ComponentLink2URL: https://www.we-online.com/redexpert/spec/74437636350472?ad; Mount: Through Hole; Min Operating Temperature: -55°C; Max Operating Temperature: 155°C; Packaging: Tray; Length: 36mm; Width: 35.7mm; Height: 34.2mm; Inductance: 4.7µH; Rated Current: 98.1A
footprint WE-HCFT_3635_74437636350472
simulation model 3635_74437636350472_4.7u
pins: 1, 2

## 74437636350652
designator L?, comment 6.5µH
WE-HCFT THT High Current Inductor, size 3635, 6.5µH, 82.4A; Manufacturer Part Number: 74437636350652; Manufacturer: Wurth Elektronik; Case/Size Code: 3635; Saturation Current: 104.8A; Self Resonant Frequency: 19.64MHz; Category: Power Inductors; Match Code: WE-HCFT; ComponentLink1Description: Website Link; ComponentLink1URL: https://www.we-online.com/redexpert/article/74437636350652?ad; ComponentLink2Description: Datasheet Link; ComponentLink2URL: https://www.we-online.com/redexpert/spec/74437636350652?ad; Mount: Through Hole; Min Operating Temperature: -55°C; Max Operating Temperature: 155°C; Packaging: Tray; Length: 36mm; Width: 35.7mm; Height: 34.2mm; Inductance: 6.5µH; Rated Current: 82.4A
footprint WE-HCFT_3635_74437636350652
pins: 1, 2

## 74437636350753
designator L?, comment 7.5µH
WE-HCFT THT High Current Inductor, size 3635, 7.5µH, 63.8A; Manufacturer Part Number: 74437636350753; Manufacturer: Wurth Elektronik; Case/Size Code: 3635; Saturation Current: 126.3A; Self Resonant Frequency: 19.77MHz; Category: Power Inductors; Match Code: WE-HCFT; ComponentLink1Description: Website Link; ComponentLink1URL: https://www.we-online.com/redexpert/article/74437636350753?ad; ComponentLink2Description: Datasheet Link; ComponentLink2URL: https://www.we-online.com/redexpert/spec/74437636350753?ad; Mount: Through Hole; Min Operating Temperature: -55°C; Max Operating Temperature: 155°C; Packaging: Tray; Length: 36mm; Width: 35.7mm; Height: 34.2mm; Inductance: 7.5µH; Rated Current: 63.8A
footprint WE-HCFT_3635_74437636350753
pins: 1, 2

## 74437636351002
designator L?, comment 10µH
WE-HCFT THT High Current Inductor, size 3635, 10µH, 63.8A; Manufacturer Part Number: 74437636351002; Manufacturer: Wurth Elektronik; Case/Size Code: 3635; Saturation Current: 90.7A; Self Resonant Frequency: 16.76MHz; Category: Power Inductors; Match Code: WE-HCFT; ComponentLink1Description: Website Link; ComponentLink1URL: https://www.we-online.com/redexpert/article/74437636351002?ad; ComponentLink2Description: Datasheet Link; ComponentLink2URL: https://www.we-online.com/redexpert/spec/74437636351002?ad; Mount: Through Hole; Min Operating Temperature: -55°C; Max Operating Temperature: 155°C; Packaging: Tray; Length: 36mm; Width: 35.7mm; Height: 34.2mm; Inductance: 10µH; Rated Current: 63.8A
footprint WE-HCFT_3635_74437636351002
pins: 1, 2

## 74437636351012
designator L?, comment 110µH
WE-HCFT THT High Current Inductor, size 3635, 110µH, 23.7A; Manufacturer Part Number: 74437636351012; Manufacturer: Wurth Elektronik; Case/Size Code: 3635; DC Resistance: 6.28mΩ; Inductance Tolerance: 20%; Saturation Current: 27.2A; Self Resonant Frequency: 5.11MHz; Category: Power Inductors; Match Code: WE-HCFT; ComponentLink1Description: Website Link; ComponentLink1URL: https://www.we-online.com/redexpert/article/74437636351012?ad; ComponentLink2Description: Datasheet Link; ComponentLink2URL: https://www.we-online.com/redexpert/spec/74437636351012?ad; Mount: Through Hole; Min Operating Temperature: -55°C; Max Operating Temperature: 155°C; Packaging: Tray; Length: 36mm; Width: 35.7mm; Height: 34.2mm; Inductance: 110µH; Rated Current: 23.7A
footprint WE-HCFT_3635_74437636351012
simulation model 3635_74437636351012_110u
pins: 1, 2

## 74437636351103
designator L?, comment 11µH
WE-HCFT THT High Current Inductor, size 3635, 11µH, 59.6A; Manufacturer Part Number: 74437636351103; Manufacturer: Wurth Elektronik; Case/Size Code: 3635; Saturation Current: 102.6A; Self Resonant Frequency: 16.64MHz; Category: Power Inductors; Match Code: WE-HCFT; ComponentLink1Description: Website Link; ComponentLink1URL: https://www.we-online.com/redexpert/article/74437636351103?ad; ComponentLink2Description: Datasheet Link; ComponentLink2URL: https://www.we-online.com/redexpert/spec/74437636351103?ad; Mount: Through Hole; Min Operating Temperature: -55°C; Max Operating Temperature: 155°C; Packaging: Tray; Length: 36mm; Width: 35.7mm; Height: 34.2mm; Inductance: 11µH; Rated Current: 59.6A
footprint WE-HCFT_3635_74437636351103
pins: 1, 2

## 74437636351803
designator L?, comment 18µH
WE-HCFT THT High Current Inductor, size 3635, 18µH, 49.3A; Manufacturer Part Number: 74437636351803; Manufacturer: Wurth Elektronik; Case/Size Code: 3635; Saturation Current: 80.3A; Self Resonant Frequency: 12.37MHz; Category: Power Inductors; Match Code: WE-HCFT; ComponentLink1Description: Website Link; ComponentLink1URL: https://www.we-online.com/redexpert/article/74437636351803?ad; ComponentLink2Description: Datasheet Link; ComponentLink2URL: https://www.we-online.com/redexpert/spec/74437636351803?ad; Mount: Through Hole; Min Operating Temperature: -55°C; Max Operating Temperature: 155°C; Packaging: Tray; Length: 36mm; Width: 35.7mm; Height: 34.2mm; Inductance: 18µH; Rated Current: 49.3A
footprint WE-HCFT_3635_74437636351803
pins: 1, 2

## 74437636352702
designator L?, comment 27µH
WE-HCFT THT High Current Inductor, size 3635, 27µH, 49.3A; Manufacturer Part Number: 74437636352702; Manufacturer: Wurth Elektronik; Case/Size Code: 3635; Saturation Current: 52.1A; Self Resonant Frequency: 10.33MHz; Category: Power Inductors; Match Code: WE-HCFT; ComponentLink1Description: Website Link; ComponentLink1URL: https://www.we-online.com/redexpert/article/74437636352702?ad; ComponentLink2Description: Datasheet Link; ComponentLink2URL: https://www.we-online.com/redexpert/spec/74437636352702?ad; Mount: Through Hole; Min Operating Temperature: -55°C; Max Operating Temperature: 155°C; Packaging: Tray; Length: 36mm; Width: 35.7mm; Height: 34.2mm; Inductance: 27µH; Rated Current: 49.3A
footprint WE-HCFT_3635_74437636352702
pins: 1, 2

## 74437636353703
designator L?, comment 37µH
WE-HCFT THT High Current Inductor, size 3635, 37µH, 32.8A; Manufacturer Part Number: 74437636353703; Manufacturer: Wurth Elektronik; Case/Size Code: 3635; Saturation Current: 56.3A; Self Resonant Frequency: 8.87MHz; Category: Power Inductors; Match Code: WE-HCFT; ComponentLink1Description: Website Link; ComponentLink1URL: https://www.we-online.com/redexpert/article/74437636353703?ad; ComponentLink2Description: Datasheet Link; ComponentLink2URL: https://www.we-online.com/redexpert/spec/74437636353703?ad; Mount: Through Hole; Min Operating Temperature: -55°C; Max Operating Temperature: 155°C; Packaging: Tray; Length: 36mm; Width: 35.7mm; Height: 34.2mm; Inductance: 37µH; Rated Current: 32.8A
footprint WE-HCFT_3635_74437636353703
pins: 1, 2

## 74437636355602
designator L?, comment 56µH
WE-HCFT THT High Current Inductor, size 3635, 56µH, 32.8A; Manufacturer Part Number: 74437636355602; Manufacturer: Wurth Elektronik; Case/Size Code: 3635; DC Resistance: 3.19mΩ; Inductance Tolerance: 20%; Saturation Current: 36.9A; Self Resonant Frequency: 7.41MHz; Category: Power Inductors; Match Code: WE-HCFT; ComponentLink1Description: Website Link; ComponentLink1URL: https://www.we-online.com/redexpert/article/74437636355602?ad; ComponentLink2Description: Datasheet Link; ComponentLink2URL: https://www.we-online.com/redexpert/spec/74437636355602?ad; Mount: Through Hole; Min Operating Temperature: -55°C; Max Operating Temperature: 155°C; Packaging: Tray; Length: 36mm; Width: 35.7mm; Height: 34.2mm; Inductance: 56µH; Rated Current: 32.8A
footprint WE-HCFT_3635_74437636355602
simulation model 3635_74437636355602_56u
pins: 1, 2